# Altium footprint library SOT-665.PcbLib: 1 footprints
Each footprint in its own frame and in the unit in brackets; x right, y up, seen from the top. Pads: shape width x height; smd on the part's side, far side on the other; paste and mask are expansions set on the pad; w line width, h text height; cw(c..) or ccw(c..) is an arc to the next point about the centre after c.
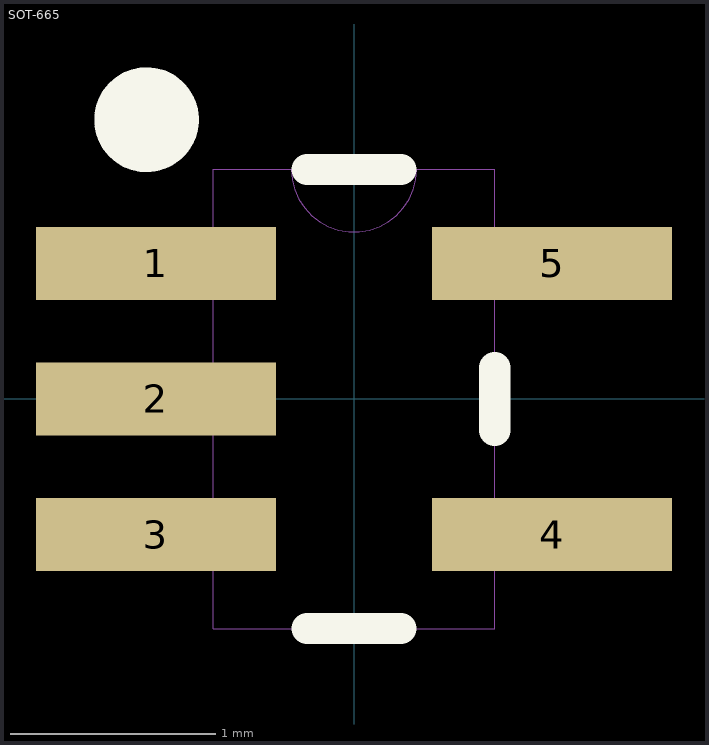
[diagram p0: the footprint, top view; thin cyan lines are the x and y axes]

## SOT-665 [mil]
pads (5):
  rect 46x14 smd: 1(-38,26) 2(-38,0) 3(-38,-26) 4(38,-26) 5(38,26)
Top Overlay:
  circle w10: c-39.76,53.54 r5.04
  lines w6: -9,-44 9,-44 ; -9,44 9,44 ; 27,-6 27,6
Mechanical 4:
  lines w0: -44,-31 -27,-31 ; -44,-31 -44,-20 ; -44,-31 -27,-31 ; -44,-31 -44,-20 ; -44,-20 -27,-20 ; -44,-20 -27,-20 ; -44,-6 -27,-6 ; -44,-6 -44,6 ; -44,-6 -27,-6 ; -44,-6 -44,6 ; -44,6 -27,6 ; -44,6 -27,6 ; -44,20 -27,20 ; -44,20 -44,31 ; -44,20 -27,20 ; -44,20 -44,31 ; -44,31 -27,31 ; -44,31 -27,31 ; -27,-44 -27,-31 ; -27,-44 27,-44 ; -27,-44 -27,-31 ; -27,-44 27,-44 ; -27,-31 -27,-20 ; -27,-31 -27,-20 ; -27,-20 -27,-6 ; -27,-20 -27,-6 ; -27,-6 -27,6 ; -27,-6 -27,6 ; -27,6 -27,20 ; -27,6 -27,20 ; -27,20 -27,31 ; -27,20 -27,31 ; -27,31 -27,44 ; -27,31 -27,44 ; -27,44 -12,44 ; -27,44 -12,44 ; -12,44 ccw(c0,44) 12,44 ; -12,44 ccw(c0,44) 12,44 ; -12,44 12,44 ; -12,44 12,44 ; 12,44 27,44 ; 12,44 27,44 ; 27,-44 27,-31 ; 27,-44 27,-31 ; 27,-31 44,-31 ; 27,-31 27,-20 ; 27,-31 44,-31 ; 27,-31 27,-20 ; 27,-20 44,-20 ; 27,-20 27,20 ; 27,-20 44,-20 ; 27,-20 27,20 ; 27,20 44,20 ; 27,20 27,31 ; 27,20 44,20 ; 27,20 27,31 ; 27,31 44,31 ; 27,31 27,44 ; 27,31 44,31 ; 27,31 27,44 ; 44,-31 44,-20 ; 44,-31 44,-20 ; 44,20 44,31 ; 44,20 44,31